# EAGLE library part AT49LV001T-90PI (library Parts)
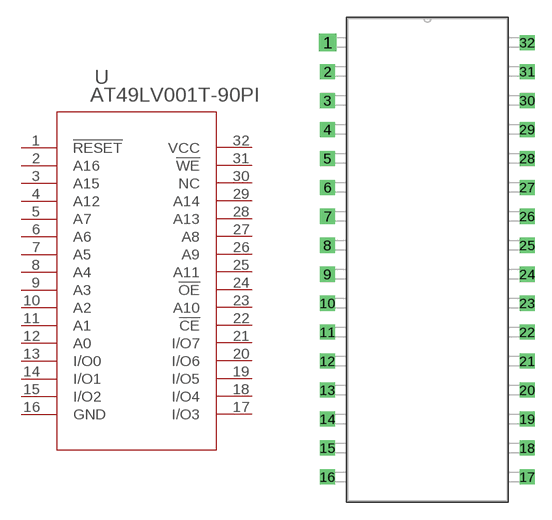
[diagram p3: symbol with the pads of PDIP32_42P2X13P9_MCH; footprint PDIP32_42P2X13P9_MCH]

Designator prefix U

## AT49LV001T-90PI (COPYRIGHT: Copyright (C) 2021 Ultra Librarian. All rights reserved.; DIGI-KEY_PART_NUMBER_1: AT49LV001T-90PI-ND; MANUFACTURER_PART_NUMBER: AT49LV001T-90PI; MFR_NAME: Microchip)  [PDIP32_42P2X13P9_MCH]
1  !RESET  pas
2  A16
3  A15
4  A12
5  A7
6  A6
7  A5
8  A4
9  A3
10  A2
11  A1
12  A0
13  I/O0
14  I/O1
15  I/O2
16  GND  pas
17  I/O3
18  I/O4
19  I/O5
20  I/O6
21  I/O7
22  !CE  pas
23  A10
24  !OE  pas
25  A11
26  A9
27  A8
28  A13
29  A14
30  NC  nc
31  !WE  pas
32  VCC  pwr

## Footprint PDIP32_42P2X13P9_MCH (pad centres in mm)
drill 0.813 pad 1.524 square: 1 0,0
drill 0.813 pad 0.813 square: 2 0,-2.54; 3 0,-5.08; 4 0,-7.62; 5 0,-10.16; 6 0,-12.7; 7 0,-15.24; 8 0,-17.78; 9 0,-20.32; 10 0,-22.86; 11 0,-25.4; 12 0,-27.94; 13 0,-30.48; 14 0,-33.02; 15 0,-35.56; 16 0,-38.1; 17 17.526,-38.1; 18 17.526,-35.56; 19 17.526,-33.02; 20 17.526,-30.48; 21 17.526,-27.94; 22 17.526,-25.4; 23 17.526,-22.86; 24 17.526,-20.32; 25 17.526,-17.78; 26 17.526,-15.24; 27 17.526,-12.7; 28 17.526,-10.16; 29 17.526,-7.62; 30 17.526,-5.08; 31 17.526,-2.54; 32 17.526,0